# Altium schematic symbol library IRL6297SDPbF.SchLib: 1 symbol
Pins are listed as number, name and electrical type; pins without a type are passive.

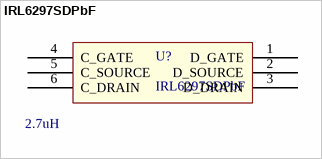
[diagram p0: symbol IRL6297SDPbF]

## IRL6297SDPbF
designator U?  value 2.7uH
Supplier 1: Digi-Key; Supplier Part Number 1: IRL6297SDTRPBF-ND
footprint IRL6297SDPbF (Dual N-Channel Power MOSFET for Charge and Discharge Switching)
pins: 1 D_GATE, 2 D_SOURCE, 3 D_DRAIN, 4 C_GATE, 5 C_SOURCE, 6 C_DRAIN